# EAGLE library part LM2596S (library EE445L)
Texas Instruments LM2596S-5.0/NOPB STEP-DOWN VOLTAGE REGULATOR Mouser 926-LM2596S-5.0/NOPB
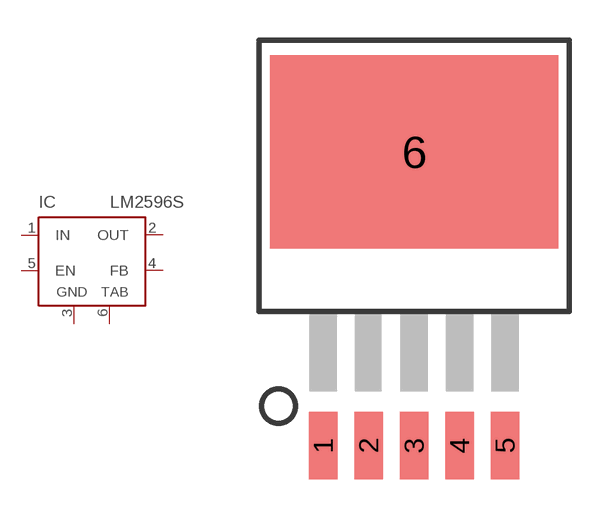
[diagram p42: symbol with the pads of TO-263-5; footprint TO-263-5]

Designator prefix IC

## LM2596S  [TO-263-5]
1  IN  in
2  OUT  out
3  GND  pwr
4  FB  in
5  EN  in
6  TAB  pwr

## Footprint TO-263-5 (pad centres in mm)
TO263 5-pin surface mount LP2596
smd 1.067 x 2.54: 1 -3.404,-7.188; 2 -1.702,-7.188; 3 0,-7.188; 4 1.702,-7.188; 5 3.404,-7.188
smd 10.795 x 7.239: 6 0,3.81